# Altium footprint library M8_Conn.PcbLib: 1 footprints
Each footprint in its own frame and in the unit in brackets; x right, y up, seen from the top. Pads: shape width x height; smd on the part's side, far side on the other; paste and mask are expansions set on the pad; w line width, h text height; cw(c..) or ccw(c..) is an arc to the next point about the centre after c.
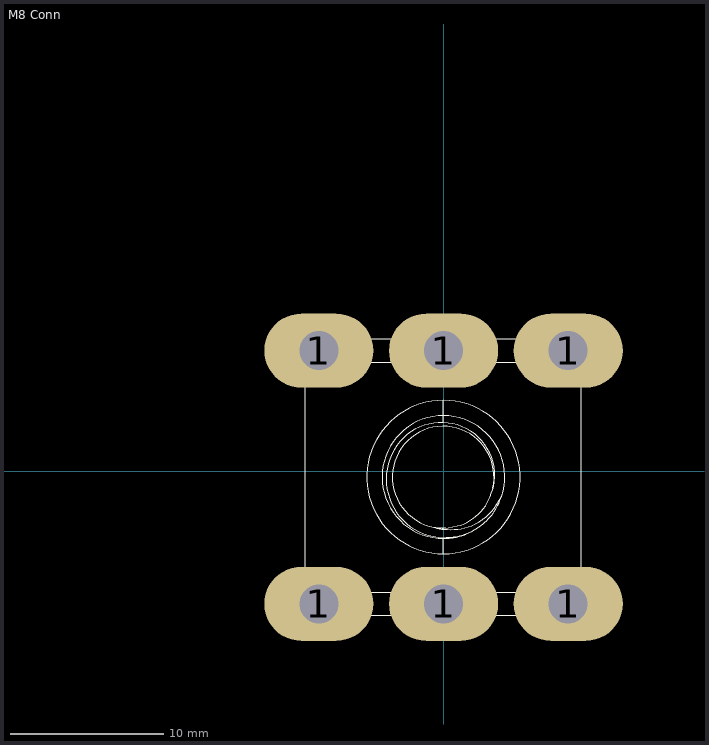
[diagram p0: the footprint, top view; thin cyan lines are the x and y axes]

## M8 Conn [mil] "M8 Conn"
pads (6):
  oval 280x190 hole 100: 1(-320,-340) 1(-320,310) 1(0,-340) 1(0,310) 1(320,-340) 1(320,310)
Top Overlay:
  lines w0.5: -354.62,-309.83 354.04,-309.83 ; -354.62,280.72 354.04,280.72 ; -25.51,-142.76 5.07,-144.46 ; 126.46,-43.57 ccw(c-0.91,-14.68) -24.31,-143.17 ; -24.31,-143.17 -21.96,-143.91 -19.59,-144.63 -17.22,-145.32 ccw(c8.5,-54.61) -12.45,-146.54 ccw(c10.62,-44.73) -10.03,-147.06 ccw(c16.58,-15.15) -7.61,-147.52 -5.17,-147.95 -0.29,-148.75 ; -24.31,-143.17 -19.54,-143.93 -17.15,-144.28 ccw(c0,-20) -14.75,-144.59 ccw(c-3.3,-47.84) -12.35,-144.84 ccw(c-3.51,-49.18) -9.95,-145.03 ccw(c-1.66,-21.61) -7.54,-145.17 -5.13,-145.27 -2.71,-145.34 -0.29,-145.4 ; -0.29,-211.4 cw(c-0.29,-14.55) -0.29,182.3 ; -0.29,-211.4 ccw(c-0.29,-14.55) -0.29,182.3 ; -0.29,-211.4 -0.29,-169.69 ; -0.29,-169.69 ccw(c-13.57,369.33) 14.44,-169.13 ccw(c2.68,42.93) 21.76,-168.6 ccw(c8.32,-19.57) 29.02,-167.76 ccw(c13.08,-53.68) 36.19,-166.53 ccw(c12.92,-54.23) 43.26,-164.83 ccw(c3.85,-21.18) 50.25,-162.72 ccw(c-15.61,38.17) 57.18,-160.32 ccw(c-65.59,174.5) 64.07,-157.71 70.94,-155 ; -0.29,-169.69 cw(c2.46,-20.01) -120.05,66.03 cw(c-5.84,-14.85) -0.29,124.99 ; -0.29,-148.75 ccw(c22.29,415.35) 18.19,-149.18 ccw(c19.56,34.68) 36.51,-148.41 ccw(c25.73,-34.59) 54.52,-145.23 ccw(c22.77,-23.99) 71.96,-139.26 ccw(c12.84,-2.4) 117.7,-108.38 ccw(c6.9,4.44) 130.06,-94.74 ccw(c-21.33,20.54) 149.39,-63.5 ; -0.29,-148.75 -0.29,-145.4 ; -0.29,-145.4 ccw(c-20.09,112.2) 35.53,-140.1 ccw(c10.77,-37.82) 52.54,-134.41 ccw(c5.36,-25.86) 68.54,-125.95 ccw(c-5.37,-8.77) 83.31,-115.21 ccw(c-5.05,-8.5) 96.57,-102.67 ccw(c9.79,-22.18) 107.83,-88.49 ccw(c20.55,-29.7) 116.54,-72.82 ccw(c-38.63,-3.55) 123.01,-55.99 ccw(c-376.11,106.08) 128.33,-38.58 ccw(c-3.27,-9.91) 23.23,122.14 ccw(c-15.89,-102.58) -0.29,124.99 ; -0.29,124.99 -0.29,182.3 ; 70.94,-155 ccw(c-79.94,113.29) 91.98,-142.03 ccw(c19.47,-36.93) 101.78,-134.55 ccw(c10.34,-26.35) 110.86,-126.17 ccw(c-7.59,-8.52) 119.26,-117.06 ccw(c-7.37,-8.26) 126.99,-107.36 ccw(c12.99,-23.26) 133.88,-97.1 ccw(c24.84,-30.67) 139.78,-86.28 ccw(c-44.23,2.49) 144.81,-75.01 ccw(c-427.68,159.71) 149.39,-63.5 ; 70.94,-155 64.11,-157.95 cw(c-76.83,171.75) 57.26,-160.8 cw(c-22.23,36.33) 50.36,-163.44 cw(c-0.78,-22.71) 43.39,-165.78 cw(c9.39,-55.64) 36.33,-167.72 cw(c9.66,-55.57) 29.15,-169.19 cw(c3.83,-21.61) 21.87,-170.25 cw(c-3.74,40.75) 14.52,-171.01 cw(c-29.99,366.82) -0.29,-172.03 cw(c-0.29,-14.55) -0.29,142.93 cw(c-0.29,-14.55) 149.39,-63.5 ; -354.62,-368.88 354.04,-368.88 354.04,339.78 -354.62,339.78 -354.62,-368.88
3D body "Клемма на плату 180А М8.STEP": height 500, standoff -129.92, extent -354.62,-368.88 354.04,339.78